# EAGLE library part AT90*2333 (library atmel)
MICROCONTROLLER 2 Kbytes FLASH 128 bytes SRAM 128 bytes EEPROM UART 6-channel 10-bit ADC
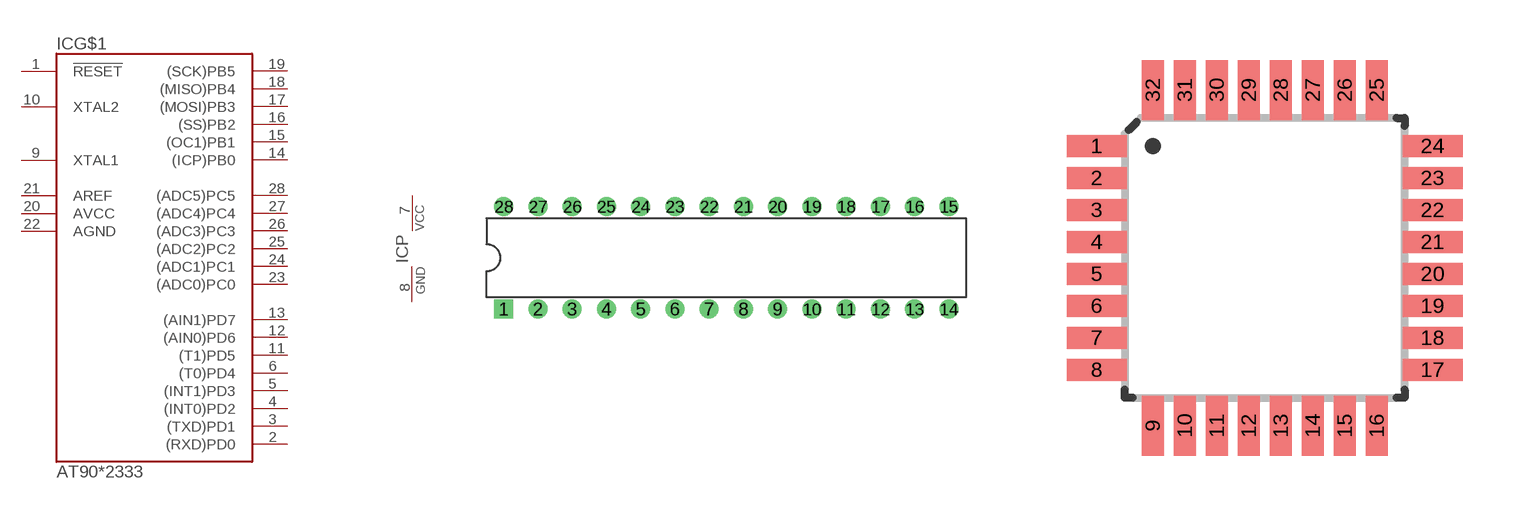
[diagram p19: symbol with the pads of DIL28-3; footprints DIL28-3, QFP32_7X7_0.80]

Designator prefix IC; gates G$1=20-I/O-1 P=PWR

## AT90S2333P  [DIL28-3]
1  G$1:!RESET  in
2  G$1:(RXD)PD0
3  G$1:(TXD)PD1
4  G$1:(INT0)PD2
5  G$1:(INT1)PD3
6  G$1:(T0)PD4
7  P:VCC  pwr
8  P:GND  pwr
9  G$1:XTAL1
10  G$1:XTAL2
11  G$1:(T1)PD5
12  G$1:(AIN0)PD6
13  G$1:(AIN1)PD7
14  G$1:(ICP)PB0
15  G$1:(OC1)PB1
16  G$1:(SS)PB2
17  G$1:(MOSI)PB3
18  G$1:(MISO)PB4
19  G$1:(SCK)PB5
20  G$1:AVCC  pwr
21  G$1:AREF  pas
22  G$1:AGND  pwr
23  G$1:(ADC0)PC0
24  G$1:(ADC1)PC1
25  G$1:(ADC2)PC2
26  G$1:(ADC3)PC3
27  G$1:(ADC4)PC4
28  G$1:(ADC5)PC5

## AT90S2333A  [QFP32_7X7_0.80]
1  G$1:(INT1)PD3
2  G$1:(T0)PD4
4  P:VCC  pwr
5  P:GND  pwr
7  G$1:XTAL1
8  G$1:XTAL2
9  G$1:(T1)PD5
10  G$1:(AIN0)PD6
11  G$1:(AIN1)PD7
12  G$1:(ICP)PB0
13  G$1:(OC1)PB1
14  G$1:(SS)PB2
15  G$1:(MOSI)PB3
16  G$1:(MISO)PB4
17  G$1:(SCK)PB5
18  G$1:AVCC  pwr
20  G$1:AREF  pas
21  G$1:AGND  pwr
23  G$1:(ADC0)PC0
24  G$1:(ADC1)PC1
25  G$1:(ADC2)PC2
26  G$1:(ADC3)PC3
27  G$1:(ADC4)PC4
28  G$1:(ADC5)PC5
29  G$1:!RESET  in
30  G$1:(RXD)PD0
31  G$1:(TXD)PD1
32  G$1:(INT0)PD2

## Footprint DIL28-3 (pad centres in mm)
DIL package, pin row distance 300mil
drill 0.8 pad 1.4 square: 1 -16.51,-3.81
drill 0.8 pad 1.4: 2 -13.97,-3.81; 3 -11.43,-3.81; 4 -8.89,-3.81; 5 -6.35,-3.81; 6 -3.81,-3.81; 7 -1.27,-3.81; 8 1.27,-3.81; 9 3.81,-3.81; 10 6.35,-3.81; 11 8.89,-3.81; 12 11.43,-3.81; 13 13.97,-3.81; 14 16.51,-3.81; 15 16.51,3.81; 16 13.97,3.81; 17 11.43,3.81; 18 8.89,3.81; 19 6.35,3.81; 20 3.81,3.81; 21 1.27,3.81; 22 -1.27,3.81; 23 -3.81,3.81; 24 -6.35,3.81; 25 -8.89,3.81; 26 -11.43,3.81; 27 -13.97,3.81; 28 -16.51,3.81

## Footprint QFP32_7X7_0.80 (pad centres in mm)
Thin Plasic Quad Flat Package, 7mm x 7mm body, 0.80mm lead pitch JEDEC: MS-026 ABA ATMEL Code: 32A
smd 1.5 x 0.55: 1 -4.2,2.8; 2 -4.2,2; 3 -4.2,1.2; 4 -4.2,0.4; 5 -4.2,-0.4; 6 -4.2,-1.2; 7 -4.2,-2; 8 -4.2,-2.8; 17 4.2,-2.8; 18 4.2,-2; 19 4.2,-1.2; 20 4.2,-0.4; 21 4.2,0.4; 22 4.2,1.2; 23 4.2,2; 24 4.2,2.8
smd 0.55 x 1.5: 9 -2.8,-4.2; 10 -2,-4.2; 11 -1.2,-4.2; 12 -0.4,-4.2; 13 0.4,-4.2; 14 1.2,-4.2; 15 2,-4.2; 16 2.8,-4.2; 25 2.8,4.2; 26 2,4.2; 27 1.2,4.2; 28 0.4,4.2; 29 -0.4,4.2; 30 -1.2,4.2; 31 -2,4.2; 32 -2.8,4.2